# EAGLE library part ADS1115 (library PA(EN)_Components_Library)
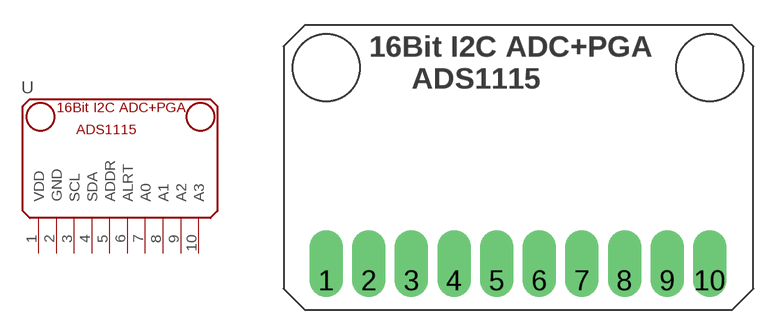
[diagram p4: symbol with the pads of ADS1115; footprint ADS1115]

Designator prefix U

## ADS1115  [ADS1115]
1  VDD
2  GND
3  SCL
4  SDA
5  ADDR
6  ALRT
7  A0
8  A1
9  A2
10  A3

## Footprint ADS1115 (pad centres in mm)
drill 1 pad 2 offset: 1 -11.43,-0.381; 2 -8.89,-0.381; 3 -6.35,-0.381; 4 -3.81,-0.381; 5 -1.27,-0.381; 6 1.27,-0.381; 7 3.81,-0.381; 8 6.35,-0.381; 9 8.89,-0.381; 10 11.43,-0.381